# Altium footprint library C_0805.PCBLIB: 1 footprints
Each footprint in its own frame and in the unit in brackets; x right, y up, seen from the top. Pads: shape width x height; smd on the part's side, far side on the other; paste and mask are expansions set on the pad; w line width, h text height; cw(c..) or ccw(c..) is an arc to the next point about the centre after c.
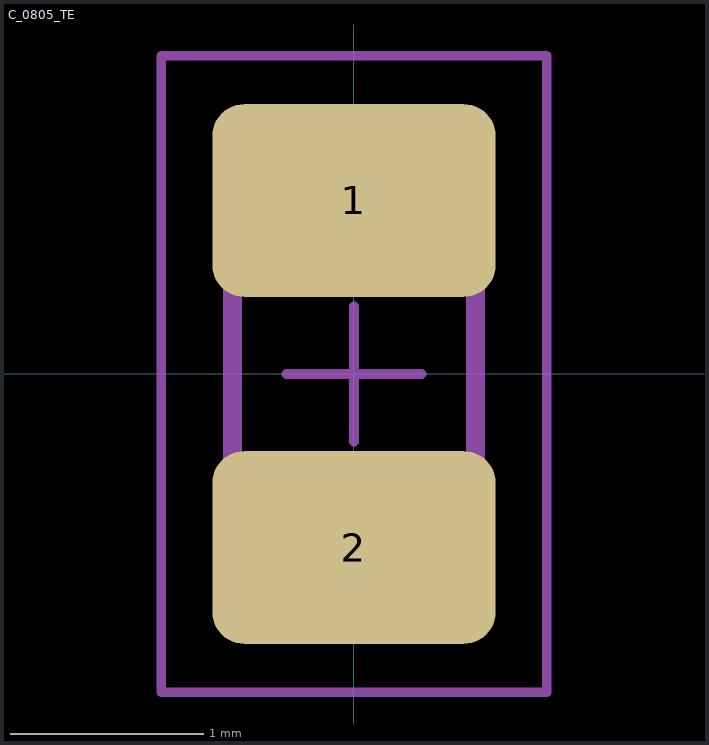
[diagram p0: the footprint, top view; thin cyan lines are the x and y axes]

## C_0805_TE [mm] "Capacitor, Chip; 2.00 mm L X 1.25 mm W X 1.45 mm H body"
height 1.35
pads (2):
  rrect33% 1.47x1 smd: 1(0,0.9) 2(0,-0.9)
Top Assembly:
  lines w0.1: -0.625,-0.6 0.63,-0.6 ; -0.625,0.6 0.625,0.6 ; -0.63,-1 -0.63,1 0.63,1 0.63,-1 -0.63,-1
Top Courtyard:
  lines w0.05: -1,-1.65 -1,1.65 1,1.65 1,-1.65 -1,-1.65
Top Designator:
  text ".Designator" at 0.6,1.5 h0.7
Top Component Center:
  lines w0.05: -0.35,0 0.35,0 ; 0,-0.35 0,0.35
3D body "CAPC2012X145L50.STEP": height 1.45, standoff 0, extent -0.625,-1 0.625,1